# EAGLE library part MEDIATEK_MT3329_PADS (library 3DRobotics_Master_Library)
Based on MediaTek Single Chip Architecture. Dimension?16mm x 16mm x 6mm. L1 Frequency, C/A code, 66 channels. High Sensitivity?Up to -165dBm tracking, superior urban performances.
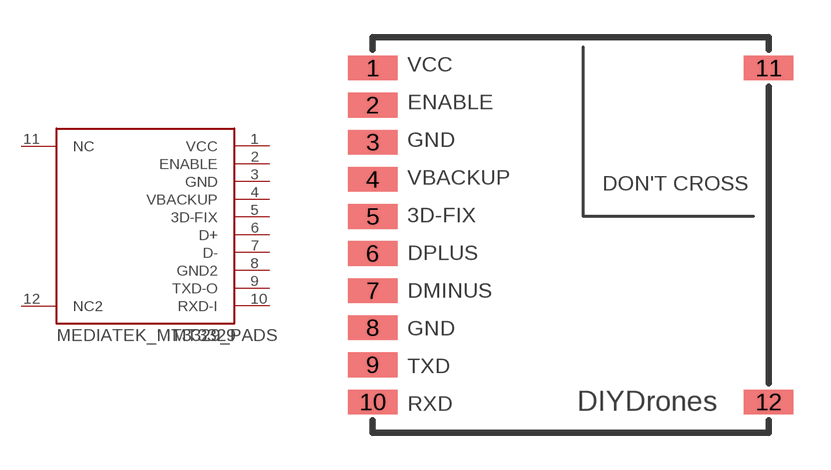
[diagram p7: symbol with the pads of MEDIATEK_MT3329; footprint MEDIATEK_MT3329]

Designator prefix MT3329

## MEDIATEK_MT3329_PADS  [MEDIATEK_MT3329]
1  VCC  pwr
2  ENABLE  in
3  GND  pas
4  VBACKUP  pwr
5  3D-FIX  out
6  D+
7  D-
8  GND2  pas
9  TXD-O  out
10  RXD-I  in
11  NC  nc
12  NC2  nc

## Footprint MEDIATEK_MT3329 (pad centres in mm)
smd 2 x 1: 1 -8,6.75; 2 -8,5.25; 3 -8,3.75; 4 -8,2.25; 5 -8,0.75; 6 -8,-0.75; 7 -8,-2.25; 8 -8,-3.75; 9 -8,-5.25; 10 -8,-6.75; 11 8,6.75; 12 8,-6.75